# EAGLE library part TPS2595X3 (library CrickitCopy)
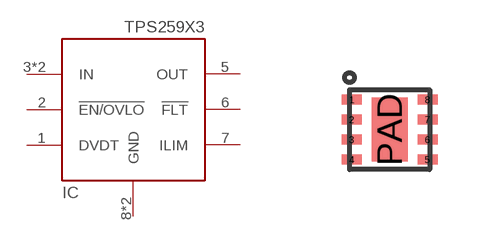
[diagram p9: symbol with the pads of WSON8; footprint WSON8]

Designator prefix IC

## TPS2595X3  [WSON8]
1  DVDT  in
2  !EN/OVLO  in
3  IN  pwr
4  IN  pwr
5  OUT  sup
6  !FLT  oc
7  ILIM  in
8  GND  pwr
PAD  GND  pwr

## Footprint WSON8 (pad centres in mm)
smd 0.5 x 0.25: 1 -0.95,0.75; 2 -0.95,0.25; 3 -0.95,-0.25; 4 -0.95,-0.75; 5 0.95,-0.75; 6 0.95,-0.25; 7 0.95,0.25; 8 0.95,0.75
smd 0.9 x 1.6: PAD 0,0